# Altium schematic symbol library 20mm Battery Holder.SchLib: 1 symbol
Pins are listed as number, name and electrical type; pins without a type are passive.

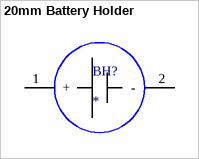
[diagram p0: symbol 20mm Battery Holder]

## 20mm Battery Holder
designator BH?
pins: 1 + (power), 2 - (power)